# Altium footprint library MLACHM_M.PCBLIB: 91 footprints (part 4 of 7)
Each footprint in its own frame and in the unit in brackets; x right, y up, seen from the top. Pads: shape width x height; smd on the part's side, far side on the other; paste and mask are expansions set on the pad; w line width, h text height; cw(c..) or ccw(c..) is an arc to the next point about the centre after c.
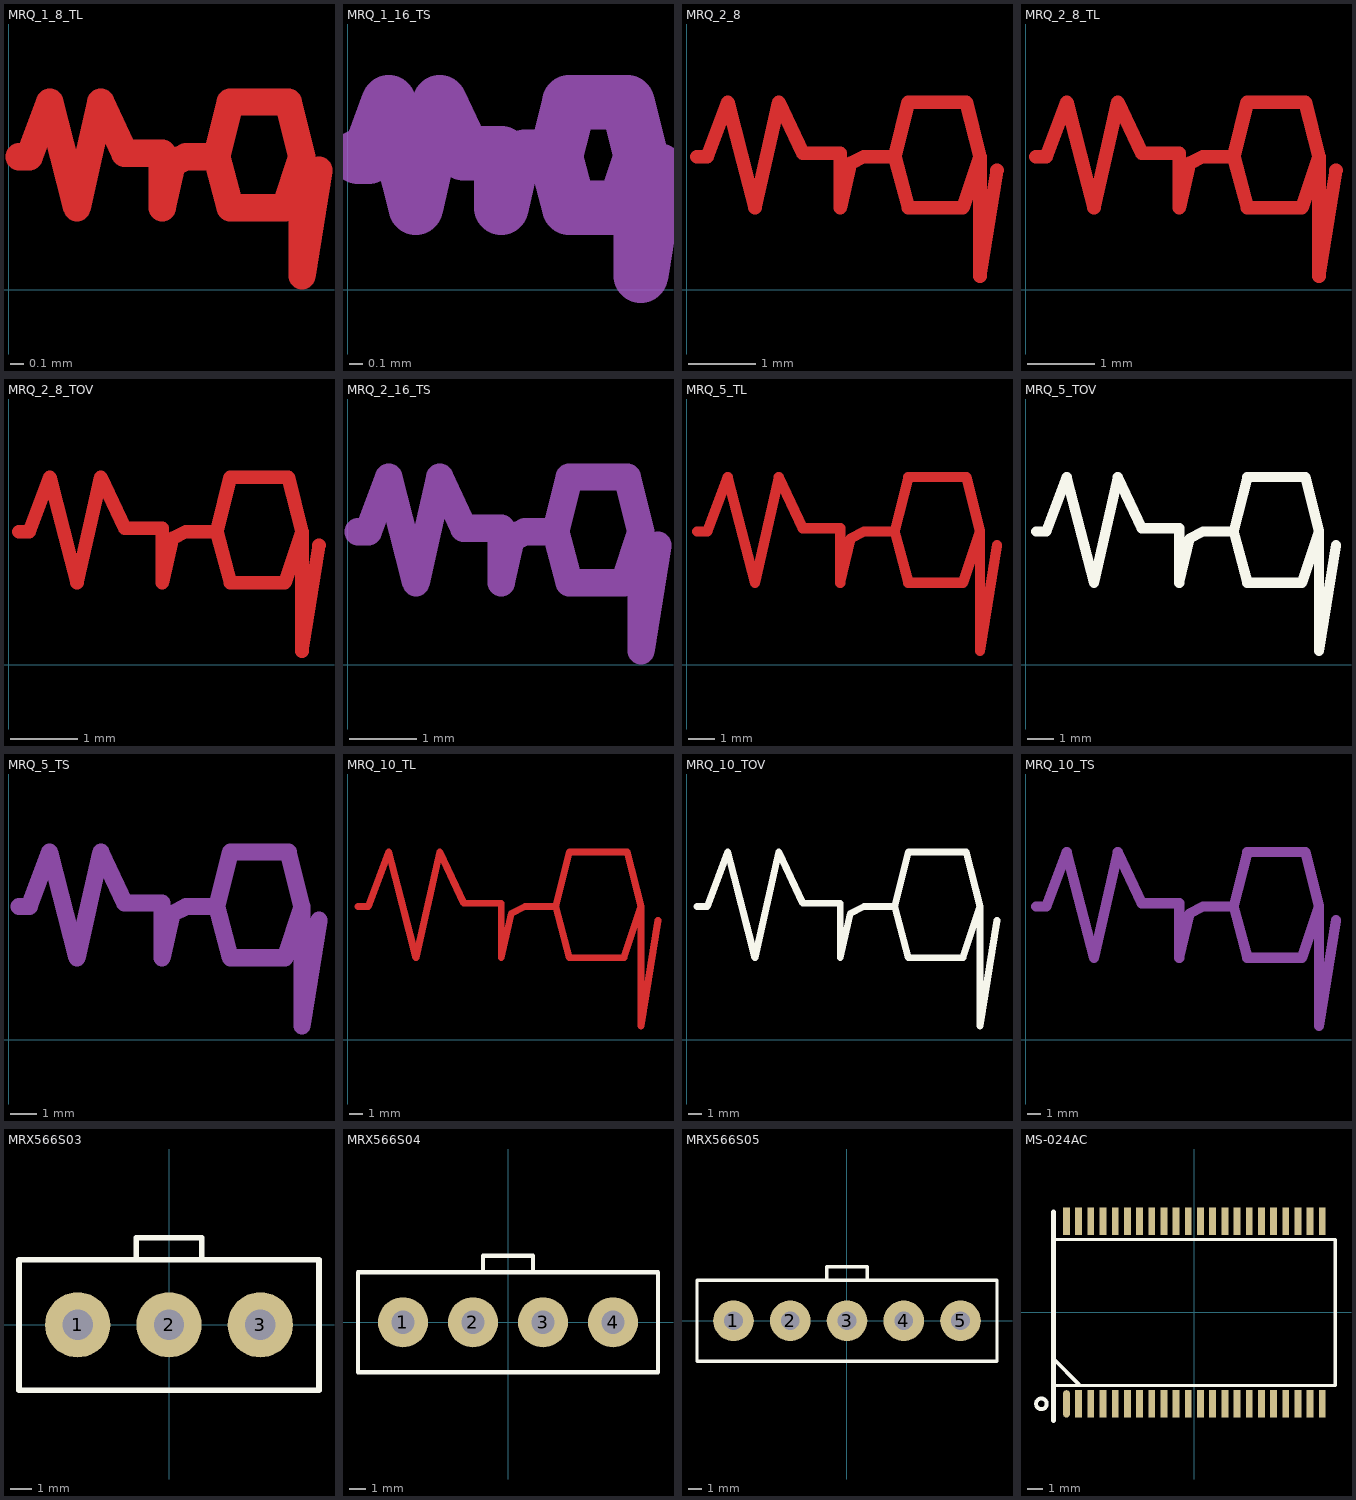
[diagram p3: the footprints below, top view; thin cyan lines are the x and y axes]

## MRQ_1_8_TL [mm]
TopLayer:
  lines w0.203: 0.076,0.991 0.152,0.991 0.305,1.397 0.508,0.61 0.686,1.397 0.864,1.016 1.143,1.016 1.143,0.61 1.219,0.94 1.321,0.991 1.549,0.991 ; 2.311,0.889 2.184,0.102 2.184,0.991 ; 1.549,0.991 1.651,0.61 2.057,0.61 2.184,0.991 ; 1.549,0.991 1.651,1.397 2.083,1.397 2.184,0.991

## MRQ_1_16_TS [mm]
TopSolder:
  lines w0.406: 0.076,0.991 0.152,0.991 0.305,1.397 0.508,0.61 0.686,1.397 0.864,1.016 1.143,1.016 1.143,0.61 1.219,0.94 1.321,0.991 1.549,0.991 ; 2.311,0.889 2.184,0.102 2.184,0.991 ; 1.549,0.991 1.651,1.397 2.083,1.397 2.184,0.991 ; 1.549,0.991 1.651,0.61 2.057,0.61 2.184,0.991

## MRQ_2_8 [mm]
TopLayer:
  lines w0.203: 0.152,1.981 0.305,1.981 0.61,2.794 1.016,1.219 1.372,2.794 1.727,2.032 2.286,2.032 2.286,1.219 2.438,1.88 2.642,1.981 3.099,1.981 ; 4.623,1.778 4.369,0.203 4.369,1.981 ; 3.099,1.981 3.302,2.794 4.166,2.794 4.369,1.981 ; 3.099,1.981 3.302,1.219 4.115,1.219 4.369,1.981
TopSolder:
  lines w0.406: 0.152,1.981 0.305,1.981 0.61,2.794 1.016,1.219 1.372,2.794 1.727,2.032 2.286,2.032 2.286,1.219 2.438,1.88 2.642,1.981 3.099,1.981 ; 4.623,1.778 4.369,0.203 4.369,1.981 ; 3.099,1.981 3.302,1.219 4.115,1.219 4.369,1.981 ; 3.099,1.981 3.302,2.794 4.166,2.794 4.369,1.981
3D body: height 0.3, standoff 0, extent 3.018,0.102 4.724,2.007
3D body: height 0.3, standoff 0, extent 0.051,1.118 4.465,2.896

## MRQ_2_8_TL [mm]
TopLayer:
  lines w0.203: 0.152,1.981 0.305,1.981 0.61,2.794 1.016,1.219 1.372,2.794 1.727,2.032 2.286,2.032 2.286,1.219 2.438,1.88 2.642,1.981 3.099,1.981 ; 4.623,1.778 4.369,0.203 4.369,1.981 ; 3.099,1.981 3.302,2.794 4.166,2.794 4.369,1.981 ; 3.099,1.981 3.302,1.219 4.115,1.219 4.369,1.981
3D body: height 0.3, standoff 0, extent 3.018,0.102 4.724,2.007
3D body: height 0.3, standoff 0, extent 0.051,1.118 4.465,2.896

## MRQ_2_8_TOV [mm]
TopLayer:
  lines w0.203: 0.152,1.981 0.305,1.981 0.61,2.794 1.016,1.219 1.372,2.794 1.727,2.032 2.286,2.032 2.286,1.219 2.438,1.88 2.642,1.981 3.099,1.981 ; 4.623,1.778 4.369,0.203 4.369,1.981 ; 3.099,1.981 3.302,2.794 4.166,2.794 4.369,1.981 ; 3.099,1.981 3.302,1.219 4.115,1.219 4.369,1.981

## MRQ_2_16_TS [mm]
TopSolder:
  lines w0.406: 0.152,1.981 0.305,1.981 0.61,2.794 1.016,1.219 1.372,2.794 1.727,2.032 2.286,2.032 2.286,1.219 2.438,1.88 2.642,1.981 3.099,1.981 ; 4.623,1.778 4.369,0.203 4.369,1.981 ; 3.099,1.981 3.302,2.794 4.166,2.794 4.369,1.981 ; 3.099,1.981 3.302,1.219 4.115,1.219 4.369,1.981

## MRQ_5_TL [mm]
TopLayer:
  lines w0.381: 0.381,4.953 0.762,4.953 1.524,6.985 2.54,3.048 3.429,6.985 4.318,5.08 5.715,5.08 5.715,3.048 6.096,4.699 6.604,4.953 7.747,4.953 ; 11.557,4.445 10.922,0.508 10.922,4.953 ; 7.747,4.953 8.255,6.985 10.414,6.985 10.922,4.953 ; 7.747,4.953 8.255,3.048 10.287,3.048 10.922,4.953

## MRQ_5_TOV [mm]
TopOverlay:
  lines w0.381: 0.381,4.953 0.762,4.953 1.524,6.985 2.54,3.048 3.429,6.985 4.318,5.08 5.715,5.08 5.715,3.048 6.096,4.699 6.604,4.953 7.747,4.953 ; 11.557,4.445 10.922,0.508 10.922,4.953 ; 7.747,4.953 8.255,6.985 10.414,6.985 10.922,4.953 ; 7.747,4.953 8.255,3.048 10.287,3.048 10.922,4.953

## MRQ_5_TS [mm]
TopSolder:
  lines w0.635: 0.381,4.953 0.762,4.953 1.524,6.985 2.54,3.048 3.429,6.985 4.318,5.08 5.715,5.08 5.715,3.048 6.096,4.699 6.604,4.953 7.747,4.953 ; 11.557,4.445 10.922,0.508 10.922,4.953 ; 7.747,4.953 8.255,3.048 10.287,3.048 10.922,4.953 ; 7.747,4.953 8.255,6.985 10.414,6.985 10.922,4.953

## MRQ_10_TL [mm]
TopLayer:
  lines w0.508: 0.762,9.906 1.524,9.906 3.048,13.97 5.08,6.096 6.858,13.97 8.636,10.16 11.43,10.16 11.43,6.096 12.192,9.398 13.208,9.906 15.494,9.906 ; 23.114,8.89 21.844,1.016 21.844,9.906 ; 15.494,9.906 16.51,6.096 20.574,6.096 21.844,9.906 ; 15.494,9.906 16.51,13.97 20.828,13.97 21.844,9.906

## MRQ_10_TOV [mm]
TopOverlay:
  lines w0.508: 0.762,9.906 1.524,9.906 3.048,13.97 5.08,6.096 6.858,13.97 8.636,10.16 11.43,10.16 11.43,6.096 12.192,9.398 13.208,9.906 15.494,9.906 ; 23.114,8.89 21.844,1.016 21.844,9.906 ; 15.494,9.906 16.51,6.096 20.574,6.096 21.844,9.906 ; 15.494,9.906 16.51,13.97 20.828,13.97 21.844,9.906

## MRQ_10_TS [mm]
TopSolder:
  lines w0.762: 0.762,9.906 1.524,9.906 3.048,13.97 5.08,6.096 6.858,13.97 8.636,10.16 11.43,10.16 11.43,6.096 12.192,9.398 13.208,9.906 15.494,9.906 ; 23.114,8.89 21.844,1.016 21.844,9.906 ; 15.494,9.906 16.51,13.97 20.828,13.97 21.844,9.906 ; 15.494,9.906 16.51,6.096 20.574,6.096 21.844,9.906

## MRX566S03 [mm]
pads (3):
  round 3 hole 1.4: 1(-4.2,0) 2(0,0) 3(4.2,0)
TopOverlay:
  lines w0.254: -1.5,3 -1.5,4 1.5,4 1.5,3 ; -6.9,-3 -6.9,3 6.9,3 6.9,-3 -6.9,-3
3D body: height 12.8, standoff 0, extent -6.9,-3 6.9,3
3D body: height 12.8, standoff 8, extent -1.5,3 1.5,4

## MRX566S04 [mm]
pads (4):
  round 3 hole 1.4: 1(-6.3,0) 2(-2.1,0) 3(2.1,0) 4(6.3,0)
TopOverlay:
  lines w0.254: -1.5,3 -1.5,4 1.5,4 1.5,3 ; -9,-3 9,-3 9,3 -9,3 -9,-3
3D body: height 12.8, standoff 8, extent -1.5,3 1.5,4
3D body: height 12.8, standoff 0, extent -9,-3 9,3

## MRX566S05 [mm]
pads (5):
  round 3 hole 1.4: 1(-8.4,0) 2(-4.2,0) 3(0,0) 4(4.2,0) 5(8.4,0)
TopOverlay:
  lines w0.254: -1.5,3 -1.5,4 1.5,4 1.5,3 ; -11.1,-3 11.1,-3 11.1,3 -11.1,3 -11.1,-3
3D body: height 12.8, standoff 8, extent -1.5,3 1.5,4
3D body: height 12.8, standoff 0, extent -11.1,-3 11.1,3

## MS-024AC [mm]
pads (44):
  oval 0.45x1.8 smd: 1(-8.4,-6)
  rect 0.45x1.8 smd: 2(-7.6,-6) 3(-6.8,-6) 4(-6,-6) 5(-5.2,-6) 6(-4.4,-6) 7(-3.6,-6) 8(-2.8,-6) 9(-2,-6) 10(-1.2,-6) 11(-0.4,-6) 12(0.4,-6) 13(1.2,-6) 14(2,-6) 15(2.8,-6) 16(3.6,-6) 17(4.4,-6) 18(5.2,-6) 19(6,-6) 20(6.8,-6) 21(7.6,-6) 22(8.4,-6) 23(8.4,6) 24(7.6,6) 25(6.8,6) 26(6,6) 27(5.2,6) 28(4.4,6) 29(3.6,6) 30(2.8,6) 31(2,6) 32(1.2,6) 33(0.4,6) 34(-0.4,6) 35(-1.2,6) 36(-2,6) 37(-2.8,6) 38(-3.6,6) 39(-4.4,6) 40(-5.2,6) 41(-6,6) 42(-6.8,6) 43(-7.6,6) 44(-8.4,6)
TopOverlay:
  circle w0.25: c-10.05,-6 r0.35
  lines w0.2: -9.25,-4.8 9.25,-4.8 9.25,4.8 -9.25,4.8
  lines w0.254: -9.2,-3.1 -7.6,-4.7
  lines w0.3: -9.25,-7.1 -9.25,6.6
3D body: height 0.63, standoff 0.38, extent -8.6,5.1 -8.2,5.55
3D body: height 0.63, standoff 0, extent -8.6,5.4 -8.2,5.55
3D body: height 0.15, standoff 0, extent -8.6,5.4 -8.2,6.15
3D body: height 0.15, standoff 0, extent -7.8,5.4 -7.4,6.15
3D body: height 0.63, standoff 0, extent -7.8,5.4 -7.4,5.55
3D body: height 0.63, standoff 0.38, extent -7.8,5.1 -7.4,5.55
3D body: height 0.15, standoff 0, extent -7,5.4 -6.6,6.15
3D body: height 0.63, standoff 0, extent -7,5.4 -6.6,5.55
3D body: height 0.63, standoff 0.38, extent -7,5.1 -6.6,5.55
3D body: height 0.15, standoff 0, extent -6.2,5.4 -5.8,6.15
3D body: height 0.63, standoff 0, extent -6.2,5.4 -5.8,5.55
3D body: height 0.63, standoff 0.38, extent -6.2,5.1 -5.8,5.55
3D body: height 0.63, standoff 0.38, extent -3,5.1 -2.6,5.55
3D body: height 0.63, standoff 0, extent -3,5.4 -2.6,5.55
3D body: height 0.15, standoff 0, extent -3,5.4 -2.6,6.15
3D body: height 0.63, standoff 0.38, extent -3.8,5.1 -3.4,5.55
3D body: height 0.63, standoff 0, extent -3.8,5.4 -3.4,5.55
3D body: height 0.15, standoff 0, extent -3.8,5.4 -3.4,6.15
3D body: height 0.63, standoff 0.38, extent -4.6,5.1 -4.2,5.55
3D body: height 0.63, standoff 0, extent -4.6,5.4 -4.2,5.55
3D body: height 0.15, standoff 0, extent -4.6,5.4 -4.2,6.15
3D body: height 0.15, standoff 0, extent -5.4,5.4 -5,6.15
3D body: height 0.63, standoff 0, extent -5.4,5.4 -5,5.55
3D body: height 0.63, standoff 0.38, extent -5.4,5.1 -5,5.55
3D body: height 0.63, standoff 0.38, extent 0.2,5.1 0.6,5.55
3D body: height 0.63, standoff 0, extent 0.2,5.4 0.6,5.55
3D body: height 0.15, standoff 0, extent 0.2,5.4 0.6,6.15
3D body: height 0.63, standoff 0.38, extent -0.6,5.1 -0.2,5.55
3D body: height 0.63, standoff 0, extent -0.6,5.4 -0.2,5.55
3D body: height 0.15, standoff 0, extent -0.6,5.4 -0.2,6.15
3D body: height 0.63, standoff 0.38, extent -1.4,5.1 -1,5.55
3D body: height 0.63, standoff 0, extent -1.4,5.4 -1,5.55
3D body: height 0.15, standoff 0, extent -1.4,5.4 -1,6.15
3D body: height 0.15, standoff 0, extent -2.2,5.4 -1.8,6.15
3D body: height 0.63, standoff 0, extent -2.2,5.4 -1.8,5.55
3D body: height 0.63, standoff 0.38, extent -2.2,5.1 -1.8,5.55
3D body: height 0.63, standoff 0.38, extent 3.4,5.1 3.8,5.55
3D body: height 0.63, standoff 0, extent 3.4,5.4 3.8,5.55
3D body: height 0.15, standoff 0, extent 3.4,5.4 3.8,6.15
3D body: height 0.63, standoff 0.38, extent 2.6,5.1 3,5.55
3D body: height 0.63, standoff 0, extent 2.6,5.4 3,5.55
3D body: height 0.15, standoff 0, extent 2.6,5.4 3,6.15
3D body: height 0.63, standoff 0.38, extent 1.8,5.1 2.2,5.55
3D body: height 0.63, standoff 0, extent 1.8,5.4 2.2,5.55
3D body: height 0.15, standoff 0, extent 1.8,5.4 2.2,6.15
3D body: height 0.15, standoff 0, extent 1,5.4 1.4,6.15
3D body: height 0.63, standoff 0, extent 1,5.4 1.4,5.55
3D body: height 0.63, standoff 0.38, extent 1,5.1 1.4,5.55
3D body: height 0.63, standoff 0.38, extent 6.6,5.1 7,5.55
3D body: height 0.63, standoff 0, extent 6.6,5.4 7,5.55
3D body: height 0.15, standoff 0, extent 6.6,5.4 7,6.15
3D body: height 0.63, standoff 0.38, extent 5.8,5.1 6.2,5.55
3D body: height 0.63, standoff 0, extent 5.8,5.4 6.2,5.55
3D body: height 0.15, standoff 0, extent 5.8,5.4 6.2,6.15
3D body: height 0.63, standoff 0.38, extent 5,5.1 5.4,5.55
3D body: height 0.63, standoff 0, extent 5,5.4 5.4,5.55
3D body: height 0.15, standoff 0, extent 5,5.4 5.4,6.15
3D body: height 0.15, standoff 0, extent 4.2,5.4 4.6,6.15
3D body: height 0.63, standoff 0, extent 4.2,5.4 4.6,5.55
3D body: height 0.63, standoff 0.38, extent 4.2,5.1 4.6,5.55
3D body: height 0.63, standoff 0.38, extent 8.2,5.1 8.6,5.55
3D body: height 0.63, standoff 0, extent 8.2,5.4 8.6,5.55
3D body: height 0.15, standoff 0, extent 8.2,5.4 8.6,6.15
3D body: height 0.63, standoff 0.38, extent 7.4,5.1 7.8,5.55
3D body: height 0.63, standoff 0, extent 7.4,5.4 7.8,5.55
3D body: height 0.15, standoff 0, extent 7.4,5.4 7.8,6.15
3D body: height 0.63, standoff 0.38, extent 6.6,5.1 7,5.55
3D body: height 0.63, standoff 0, extent 6.6,5.4 7,5.55
3D body: height 0.15, standoff 0, extent 6.6,5.4 7,6.15
3D body: height 0.15, standoff 0, extent 5.8,5.4 6.2,6.15
3D body: height 0.63, standoff 0, extent 5.8,5.4 6.2,5.55
3D body: height 0.63, standoff 0.38, extent 5.8,5.1 6.2,5.55
3D body: height 0.63, standoff 0.38, extent 5.8,-5.55 6.2,-5.1
3D body: height 0.63, standoff 0, extent 5.8,-5.55 6.2,-5.4
3D body: height 0.15, standoff 0, extent 5.8,-6.15 6.2,-5.4
3D body: height 0.15, standoff 0, extent 6.6,-6.15 7,-5.4
3D body: height 0.63, standoff 0, extent 6.6,-5.55 7,-5.4
3D body: height 0.63, standoff 0.38, extent 6.6,-5.55 7,-5.1
3D body: height 0.15, standoff 0, extent 7.4,-6.15 7.8,-5.4
3D body: height 0.63, standoff 0, extent 7.4,-5.55 7.8,-5.4
3D body: height 0.63, standoff 0.38, extent 7.4,-5.55 7.8,-5.1
3D body: height 0.15, standoff 0, extent 8.2,-6.15 8.6,-5.4
3D body: height 0.63, standoff 0, extent 8.2,-5.55 8.6,-5.4
3D body: height 0.63, standoff 0.38, extent 8.2,-5.55 8.6,-5.1
3D body: height 0.63, standoff 0.38, extent 4.2,-5.55 4.6,-5.1
3D body: height 0.63, standoff 0, extent 4.2,-5.55 4.6,-5.4
3D body: height 0.15, standoff 0, extent 4.2,-6.15 4.6,-5.4
3D body: height 0.15, standoff 0, extent 5,-6.15 5.4,-5.4
3D body: height 0.63, standoff 0, extent 5,-5.55 5.4,-5.4
3D body: height 0.63, standoff 0.38, extent 5,-5.55 5.4,-5.1
3D body: height 0.15, standoff 0, extent 5.8,-6.15 6.2,-5.4
3D body: height 0.63, standoff 0, extent 5.8,-5.55 6.2,-5.4
3D body: height 0.63, standoff 0.38, extent 5.8,-5.55 6.2,-5.1
3D body: height 0.15, standoff 0, extent 6.6,-6.15 7,-5.4
3D body: height 0.63, standoff 0, extent 6.6,-5.55 7,-5.4
3D body: height 0.63, standoff 0.38, extent 6.6,-5.55 7,-5.1
3D body: height 0.63, standoff 0.38, extent 1,-5.55 1.4,-5.1
3D body: height 0.63, standoff 0, extent 1,-5.55 1.4,-5.4
3D body: height 0.15, standoff 0, extent 1,-6.15 1.4,-5.4
3D body: height 0.15, standoff 0, extent 1.8,-6.15 2.2,-5.4
3D body: height 0.63, standoff 0, extent 1.8,-5.55 2.2,-5.4
3D body: height 0.63, standoff 0.38, extent 1.8,-5.55 2.2,-5.1
3D body: height 0.15, standoff 0, extent 2.6,-6.15 3,-5.4
3D body: height 0.63, standoff 0, extent 2.6,-5.55 3,-5.4
3D body: height 0.63, standoff 0.38, extent 2.6,-5.55 3,-5.1
3D body: height 0.15, standoff 0, extent 3.4,-6.15 3.8,-5.4
3D body: height 0.63, standoff 0, extent 3.4,-5.55 3.8,-5.4
3D body: height 0.63, standoff 0.38, extent 3.4,-5.55 3.8,-5.1
3D body: height 0.63, standoff 0.38, extent -2.2,-5.55 -1.8,-5.1
3D body: height 0.63, standoff 0, extent -2.2,-5.55 -1.8,-5.4
3D body: height 0.15, standoff 0, extent -2.2,-6.15 -1.8,-5.4
3D body: height 0.15, standoff 0, extent -1.4,-6.15 -1,-5.4
3D body: height 0.63, standoff 0, extent -1.4,-5.55 -1,-5.4
3D body: height 0.63, standoff 0.38, extent -1.4,-5.55 -1,-5.1
3D body: height 0.15, standoff 0, extent -0.6,-6.15 -0.2,-5.4
3D body: height 0.63, standoff 0, extent -0.6,-5.55 -0.2,-5.4
3D body: height 0.63, standoff 0.38, extent -0.6,-5.55 -0.2,-5.1
3D body: height 0.15, standoff 0, extent 0.2,-6.15 0.6,-5.4
3D body: height 0.63, standoff 0, extent 0.2,-5.55 0.6,-5.4
3D body: height 0.63, standoff 0.38, extent 0.2,-5.55 0.6,-5.1
3D body: height 0.63, standoff 0.38, extent -5.4,-5.55 -5,-5.1
3D body: height 0.63, standoff 0, extent -5.4,-5.55 -5,-5.4
3D body: height 0.15, standoff 0, extent -5.4,-6.15 -5,-5.4
3D body: height 0.15, standoff 0, extent -4.6,-6.15 -4.2,-5.4
3D body: height 0.63, standoff 0, extent -4.6,-5.55 -4.2,-5.4
3D body: height 0.63, standoff 0.38, extent -4.6,-5.55 -4.2,-5.1
3D body: height 0.15, standoff 0, extent -3.8,-6.15 -3.4,-5.4
3D body: height 0.63, standoff 0, extent -3.8,-5.55 -3.4,-5.4
3D body: height 0.63, standoff 0.38, extent -3.8,-5.55 -3.4,-5.1
3D body: height 0.15, standoff 0, extent -3,-6.15 -2.6,-5.4
3D body: height 0.63, standoff 0, extent -3,-5.55 -2.6,-5.4
3D body: height 0.63, standoff 0.38, extent -3,-5.55 -2.6,-5.1
3D body: height 0.63, standoff 0.38, extent -6.2,-5.55 -5.8,-5.1
3D body: height 0.63, standoff 0, extent -6.2,-5.55 -5.8,-5.4
3D body: height 0.15, standoff 0, extent -6.2,-6.15 -5.8,-5.4
3D body: height 0.63, standoff 0.38, extent -7,-5.55 -6.6,-5.1
3D body: height 0.63, standoff 0, extent -7,-5.55 -6.6,-5.4
3D body: height 0.15, standoff 0, extent -7,-6.15 -6.6,-5.4
3D body: height 0.63, standoff 0.38, extent -7.8,-5.55 -7.4,-5.1
3D body: height 0.63, standoff 0, extent -7.8,-5.55 -7.4,-5.4
3D body: height 0.15, standoff 0, extent -7.8,-6.15 -7.4,-5.4
3D body: height 0.15, standoff 0, extent -8.6,-6.15 -8.2,-5.4
3D body: height 0.63, standoff 0, extent -8.6,-5.55 -8.2,-5.4
3D body: height 0.63, standoff 0.38, extent -8.6,-5.55 -8.2,-5.1
3D body: height 1, standoff 0, extent -9.25,-5.1 9.25,5.1